# Altium schematic symbol library VCO.SchLib: 1 symbol
Pins are listed as number, name and electrical type; pins without a type are passive.

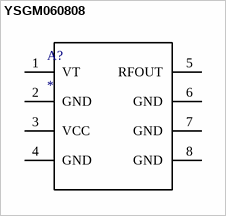
[diagram p0: symbol YSGM060808]

## YSGM060808
designator A?
footprint YSGM060808
pins: 1 VT, 2 GND, 3 VCC, 4 GND, 5 RFOUT, 6 GND, 7 GND, 8 GND